# EAGLE library part DUBOX6 (library leonino)
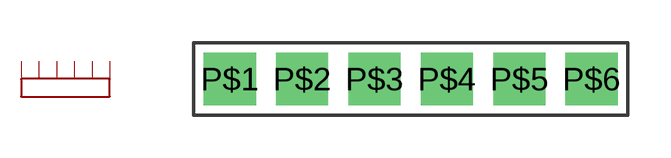
[diagram p1: symbol with the pads of DUBOX6; footprint DUBOX6]

Designator prefix -

## DUBOX6  [DUBOX6]
P$1  P$1
P$2  P$2
P$3  P$3
P$4  P$4
P$5  P$5
P$6  P$6

## Footprint DUBOX6 (pad centres in mm)
drill 1.219 pad 1.524 square: P$1 0,0; P$2 2.54,0; P$3 5.08,0; P$4 7.62,0; P$5 10.16,0; P$6 12.7,0